# Altium footprint library YZ209315103P-01.PcbLib: 1 footprints
Each footprint in its own frame and in the unit in brackets; x right, y up, seen from the top. Pads: shape width x height; smd on the part's side, far side on the other; paste and mask are expansions set on the pad; w line width, h text height; cw(c..) or ccw(c..) is an arc to the next point about the centre after c.
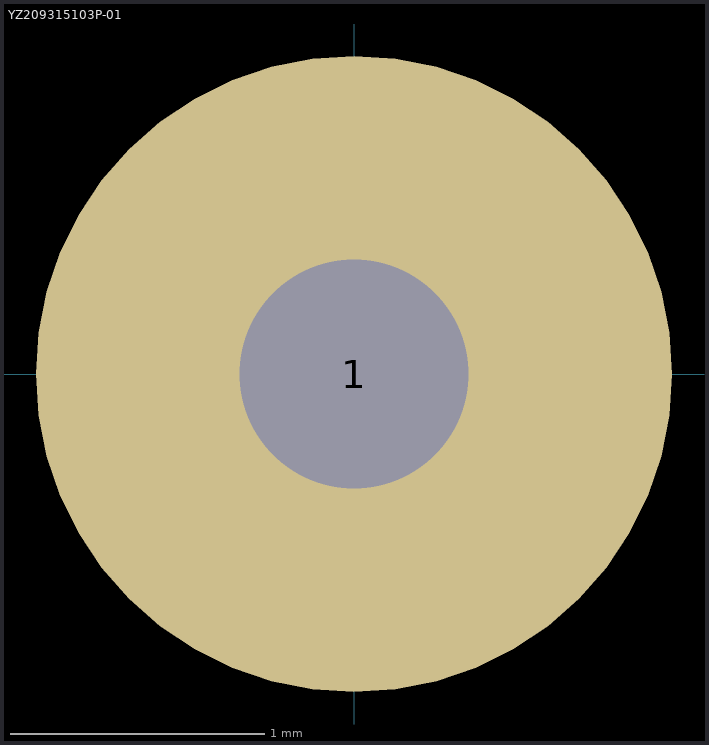
[diagram p0: the footprint, top view; thin cyan lines are the x and y axes]

## YZ209315103P-01 [mm]
height 1.6
pads (1):
  round 2.5 hole 0.9: 1(0,0)
3D body "YZ209315103P-01.STEP": height 9.5, standoff -0.8, extent -0.993,-1 0.993,1